# EAGLE library part W25N01GV (library st-microelectronics)
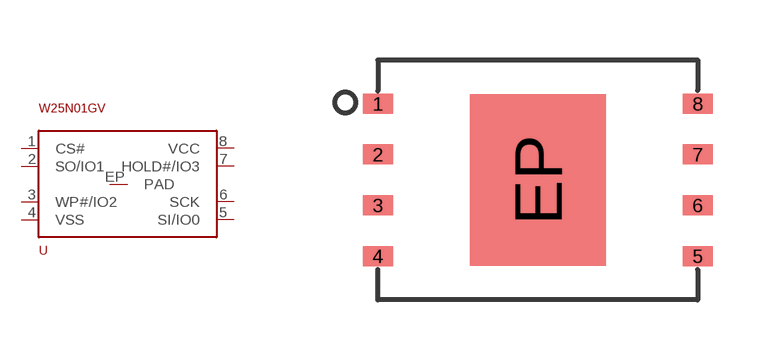
[diagram p42: symbol with the pads of 8WSON6X8; footprint 8WSON6X8]

Designator prefix -

## W25N01GV  [8WSON6X8]
1  CS#
2  SO/IO1
3  WP#/IO2
4  VSS
5  SI/IO0
6  SCK
7  HOLD#/IO3
8  VCC
EP  PAD

## Footprint 8WSON6X8 (pad centres in mm)
smd 0.75 x 0.5: 1 -4,1.905; 2 -4,0.635; 3 -4,-0.635; 4 -4,-1.905; 5 4,-1.905; 6 4,-0.635; 7 4,0.635; 8 4,1.905
smd 3.404 x 4.293: EP 0,0